# Altium schematic symbol library R45_PCBM.SchLib: 2 symbols
Pins are listed as number, name and electrical type; pins without a type are passive.

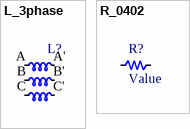
[diagram p0: symbols L_3phase to R_0402]

## L_3phase
designator L?, comment L_phase  (value not drawn)  (no BOM)
footprint R45_stator
pins: A, A', B, B', C, C'

## R_0402
designator R?, comment Value
0402 62.5mW
footprint R0402 (Chip Resistor, 2-Leads, Body 1.00x0.50mm, IPC Medium Density)
pins: 1, 2